# EAGLE library part TYPE-C-MIN (library esp32-component-libraries_v194)
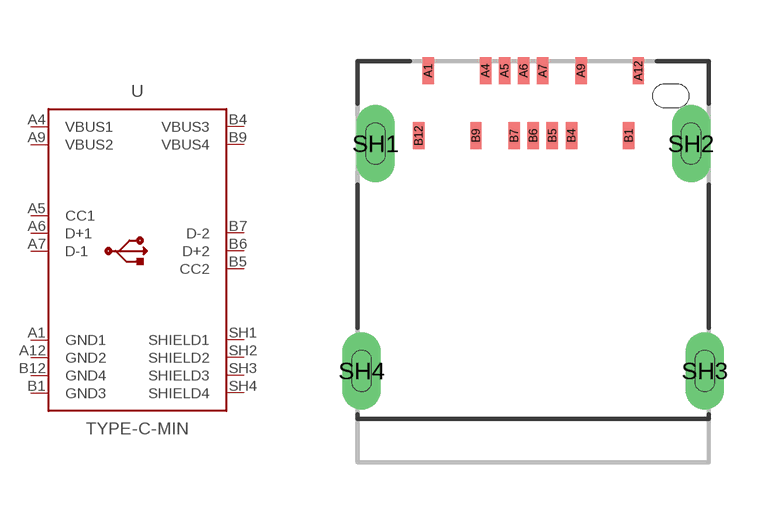
[diagram p5: symbol with the pads of TYPE-C-MIN; footprint TYPE-C-MIN]

Designator prefix -

## TYPE-C-MIN  [TYPE-C-MIN]
A1  GND1  pwr
A4  VBUS1  pwr
A5  CC1
A6  D+1
A7  D-1
A9  VBUS2  pwr
A12  GND2  pwr
B1  GND3  pwr
B4  VBUS3  pwr
B5  CC2
B6  D+2
B7  D-2
B9  VBUS4  pwr
B12  GND4  pwr
SH1  SHIELD1  sup
SH2  SHIELD2  sup
SH3  SHIELD3  sup
SH4  SHIELD4  sup

## Footprint TYPE-C-MIN (pad centres in mm)
smd 0.3 x 0.7: A1 -2.75,5; A4 -1.25,5; A5 -0.75,5; A6 -0.25,5; A7 0.25,5; A9 1.25,5; A12 2.75,5; B1 2.5,3.3; B4 1,3.3; B5 0.5,3.3; B6 0,3.3; B7 -0.5,3.3; B9 -1.5,3.3; B12 -3,3.3
drill 0.5 pad 0.8 long: SH1 -4.13,3.09; SH2 4.13,3.09; SH3 4.49,-2.86; SH4 -4.49,-2.86